# Altium footprint library camera-modules.PcbLib: 22 footprints (part 2 of 2)
Each footprint in its own frame and in the unit in brackets; x right, y up, seen from the top. Pads: shape width x height; smd on the part's side, far side on the other; paste and mask are expansions set on the pad; w line width, h text height; cw(c..) or ccw(c..) is an arc to the next point about the centre after c.
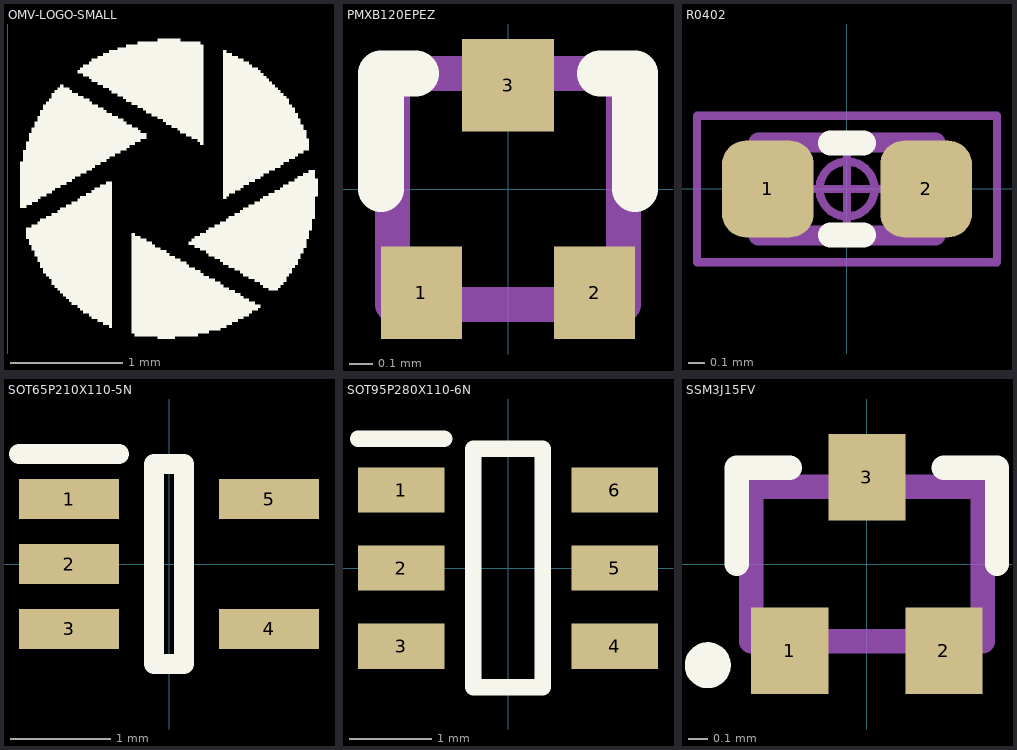
[diagram p1: the footprints below, top view; thin cyan lines are the x and y axes]

## OMV-LOGO-SMALL [mm] "OMV-LOGO-SMALL"
Top Overlay:
  drawing of 262 lines, arcs and shapes, not listed

## PMXB120EPEZ [mm] "PMXB120EPEZ"
pads (3):
  rect 0.35x0.4 smd: 1(-0.375,-0.45) 2(0.375,-0.45)
  rect 0.4x0.4 smd: 3(0,0.45)
Top Overlay:
  lines w0.2: -0.55,0 -0.55,0.5 -0.4,0.5 ; 0.4,0.5 0.55,0.5 0.55,0
Mechanical 13:
  lines w0.152: -0.5,-0.5 -0.5,0.5 0.5,0.5 0.5,-0.5 -0.5,-0.5
  text ".designator" at -0.4,0.14 h0.64
3D body: height 0.5, standoff 0, extent -0.5,-0.5 0.5,0.5

## R0402 [mm] "Chip Resistor, 2-Leads, Body  0402 (in) 1005 (mm), IPC Medium Density"
height 0.5
pads (2):
  rrect51% 0.55x0.58 smd mask+0.05: 1(-0.475,0) 2(0.475,0)
Top Overlay:
  lines w0.15: -0.1,-0.275 0.1,-0.275 ; -0.1,0.275 0.1,0.275
Mechanical 13:
  lines w0.12: -0.53,-0.28 0.53,-0.28 0.53,0.28 -0.53,0.28 -0.53,-0.28
  text ".designator" at -0.432,-0.152 h0.3
Mechanical 15:
  circle w0.05: c0,0 r0.165
  lines w0.05: -0.22,0 0.22,0 ; 0,-0.22 0,0.22 ; -0.9,-0.44 0.9,-0.44 0.9,0.44 -0.9,0.44 -0.9,-0.44
3D body "RES-0402.stp": height 0.34, standoff 0, extent -0.5,-0.25 0.5,0.25

## SOT65P210X110-5N [mm] "SOT65P210X110-5N"
pads (5):
  rect 1x0.4 smd: 1(-1,0.65) 2(-1,0) 3(-1,-0.65) 4(1,-0.65) 5(1,0.65)
Top Overlay:
  lines w0.2: -1.5,1.1 -0.5,1.1 ; -0.15,-1 -0.15,1 0.15,1 0.15,-1 -0.15,-1
3D body "sc705_model.STEP": height 0.96, standoff 0.01, extent -1.025,-1 1.075,1

## SOT95P280X110-6N [mm] "SOT95P280X100-6N"
pads (6):
  rect 1.05x0.55 smd: 1(-1.3,0.95) 2(-1.3,0) 3(-1.3,-0.95) 4(1.3,-0.95) 5(1.3,0) 6(1.3,0.95)
Top Overlay:
  lines w0.2: -1.825,1.575 -0.775,1.575 ; -0.425,-1.45 0.425,-1.45 0.425,1.45 -0.425,1.45 -0.425,-1.45
3D body "SOT23-6.stp": height 1.11, standoff -0.07, extent -1.423,-1.496 1.412,1.504

## SSM3J15FV [mm]
pads (3):
  rect 0.4x0.45 smd: 1(-0.4,-0.45) 2(0.4,-0.45) 3(0,0.45)
Top Overlay:
  circle w0.127: c-0.825,-0.525 r0.056
  lines w0.127: -0.675,0 -0.675,0.5 -0.65,0.5 -0.4,0.5 ; 0.4,0.5 0.65,0.5 0.675,0.5 0.675,0
Mechanical 13:
  lines w0.127: -0.6,-0.4 -0.6,0.4 0.6,0.4 0.6,-0.4 -0.6,-0.4
  text ".designator" at -0.6,-0.635 h0.64
3D body: height 0.2, standoff 0, extent 0.3,-0.6 0.5,-0.3
3D body: height 0.2, standoff 0, extent -0.1,0.3 0.1,0.6
3D body: height 0.2, standoff 0, extent -0.5,-0.6 -0.3,-0.3
3D body: height 0.6, standoff 0, extent -0.6,-0.4 0.6,0.4